# Altium schematic symbol library Connectors.SchLib: 13 symbols
Pins are listed as number, name and electrical type; pins without a type are passive.

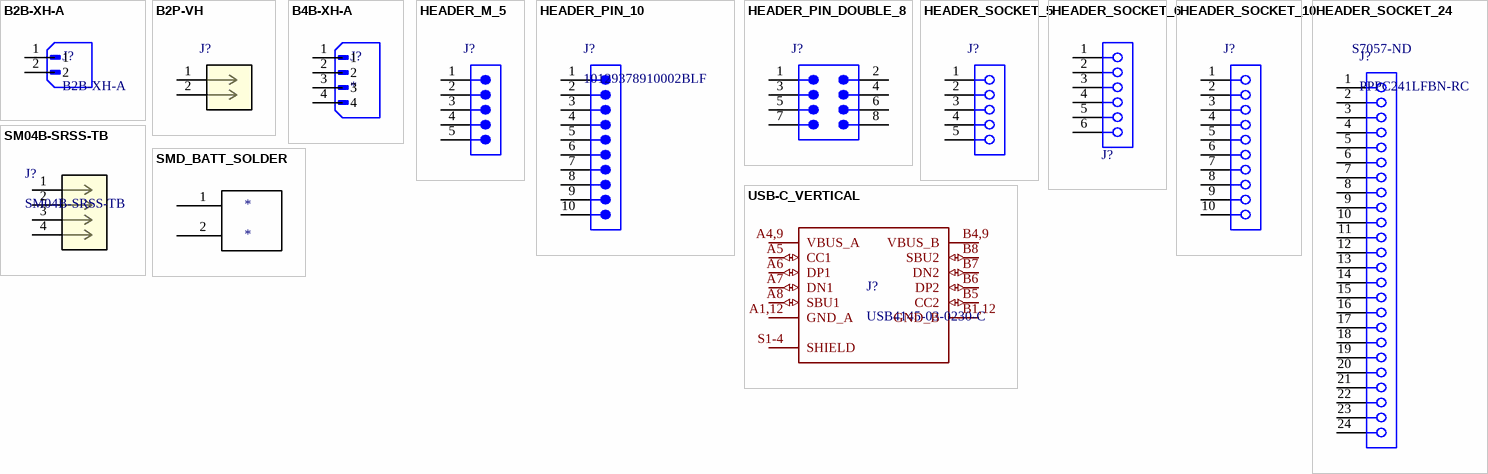
[diagram p0: symbols B2B-XH-A to USB-C_VERTICAL]

## B2B-XH-A
designator J?
MF: {'manufacturer': u'JST Sales America Inc.'}; Package: None; Price: None; Value: *; MP: B2B-XH-A; Availability: Unavailable; Supplier Part Number 1: 455-B2B-XH-A-ND
footprint JST_B2B-XH-A
pins: 1, 2

## B2P-VH
designator J?  (value not drawn)
VH Non-RoHS Compliant 2003 Vertical Connector Header -25C~85C 10A 250V 0.303 7.70mm; Manufacturer: JST; Number of Positions: 2; Gender: Male; Pitch: 0.156inch; Supplier 1: Digikey; Manufacturer Part Number: B2P-VH; RoHS: Yes; Category: Headers and Wire Housings; Stock 1: 15152; Pricing 1: 1=0.13, 10=0.112, 100=0.0949, 500=0.08472, 1000=0.08068, 5000=0.07201, 10000=0.06857 (USD); Mount: Through Hole; Contact Plating: Tin,Lead; Housing Color: Natural; Contact Material: Brass; Housing Material: Nylon; Color: Natural; Fastening Type: Friction; Packaging: Bulk; Number of Rows: 1; Termination: Solder; Orientation: Vertical; Number of Contacts: 2; Series: VH; Contact Type: Male Pin; Package Quantity: 1000; Contact Mating Length: 0.303inch; Lead Free: Contains Lead; ComponentLink1URL: https://datasheet.ciiva.com/6892/vhseries-6892089.pdf?src-supplier=Digikey; ComponentLink1Description: https://datasheet.ciiva.com/6892/vhseries-6892089.pdf?src-supplier=Digikey; Supplier Part Number 1: 455-1639-ND
footprint CONN_B2P-VH_JST
pins: 1, 2

## B4B-XH-A
designator J?
Connector Header Through Hole 4 position 0.098 (2.50mm); MF: JST Sales; MP: B4B-XH-A; SnapEDA_Link: https://www.snapeda.com/parts/B4B-XH-A/JST/view-part/?ref=snap; Package: None; Value: *; Check_prices: https://www.snapeda.com/parts/B4B-XH-A/JST/view-part/?ref=eda; Supplier Part Number 1: 455-B4B-XH-A-ND
footprint JST_B4B-XH-A
pins: 1, 2, 3, 4

## HEADER_M_5
designator J?, comment 61300511121  (value not drawn)
THT Vertical Pin Header WR-PHD, Pitch 2.54 mm, Single Row, 5 pins; Manufacturer: Wurth Electronics; Number of Positions: 5; Gender: Male; Contact Resistance: 20mR; Current Rating: 3A; Voltage Rating: 250V; Pitch: 0.1inch; Supplier 1: Digikey; Manufacturer Part Number: 61300511121; RoHS: Yes; Category: Headers and Wire Housings; Stock 1: 61079; Pricing 1: 1=0.24, 10=0.2, 25=0.1664, 50=0.1396, 100=0.1269, 1000=0.11625 (USD); Mount: Through Hole; Contact Plating: Gold; Contact Material: Copper; Color: Black; Min Operating Temperature: -40°C; Max Operating Temperature: 105°C; Number of Rows: 1; Packaging: Bulk; Termination: Solder; Number of Contacts: 5; Series: WR-PHD; Contact Type: Male Pin; Orientation: Vertical; Operating Supply Voltage: 250V; Height: 8.89mm; Contact Mating Length: 0.236inch; Lead Free: Lead Free; RoHS Compliant: Yes; Reach SVHC Compliant: Unknown; ComponentLink1URL: https://katalog.we-online.de/em/datasheet/6130xx11121.pdf?src-supplier=Digikey; ComponentLink1Description: https://katalog.we-online.de/em/datasheet/6130xx11121.pdf?src-supplier=Digikey; ComponentLink2URL: http://www.farnell.com/cad/1737268.pdf?src-supplier=Element14; ComponentLink2Description: http://www.farnell.com/cad/1737268.pdf?src-supplier=Element14; ComponentLink3URL: https://datasheet.octopart.com/61300511121-W%C3%BCrth-Elektronik-datasheet-21154836.pdf?src-supplier=Element14; ComponentLink3Description: https://datasheet.octopart.com/61300511121-W%C3%BCrth-Elektronik-datasheet-21154836.pdf?src-supplier=Element14; Supplier Part Number 1: 732-5318-ND
footprint HEADER_M_5 (Pin Header, pitch 2.54 mm, THT, Vertical, single row, 5p)
pins: 1, 2, 3, 4, 5

## HEADER_PIN_10
designator J?, comment 10129378910002BLF
Header Sr Vt Th 1X10-10129378-910002BLF; Manufacturer: Amphenol ICC / FCI; Supplier 1: Digikey; Manufacturer Part Number: 10129378910002BLF; RoHS: No; Stock 1: 16991; Pricing 1: 1=0.19, 10=0.164, 100=0.1394, 500=0.12438, 2400=0.11133, 7200=0.10302, 12000=0.09937 (USD); ComponentLink1URL: https://datasheet.octopart.com/10129378-910002BLF-Amphenol-ICC-datasheet-100454231.pdf?src-supplier=Newark; ComponentLink1Description: https://datasheet.octopart.com/10129378-910002BLF-Amphenol-ICC-datasheet-100454231.pdf?src-supplier=Newark; Supplier Part Number 1: 10129378-910002BLF-ND
footprint HEADER_PIN_10 (Pin Header, pitch 2.54 mm, THT, Vertical, single row, 10p)
pins: 1, 2, 3, 4, 5, 6, 7, 8, 9, 10

## HEADER_PIN_DOUBLE_8
designator J?, comment TSW-104-07-F-D  (value not drawn)
Connector, Header, 8Pos, 2Row, 2.54Mm Rohs Compliant: Yes; Manufacturer: Samtec; Max Current Rating: 7.6A; Number of Positions: 8; Max Voltage Rating (AC): 550V; Gender: Male; Row Spacing: 0.1inch; Supplier 1: Digikey; Manufacturer Part Number: TSW-104-07-F-D; RoHS: Yes; Category: Connectors; Stock 1: 10136; Pricing 1: 1=0.43, 50=0.37, 100=0.31, 500=0.26, 1000=0.22, 2000=0.19, 5000=0.17, 10000=0.15 (USD); Mount: Through Hole; Color: Black; Contact Plating: Gold; Contact Material: Bronze; Housing Color: Black; Housing Material: Polyester; Min Operating Temperature: -55°C; Max Operating Temperature: 125°C; Package Quantity: 1; Number of Rows: 2; Packaging: Rail/Tube; Termination: Solder; Number of Contacts: 8; Orientation: Straight; Series: TSW; Contact Type: Male Pin; Length: 10.16mm; Pitch: 2.54mm; Contact Mating Length: 0.23inch; Depth: 5.08mm; Radiation Hardening: No; Reach SVHC Compliant: No; RoHS Compliant: Yes; ComponentLink1URL: https://datasheet.ciiva.com/739/tsw-xxx-xx-xxx-x-xx-xxx-mkt-739906.pdf?src-supplier=Digikey; ComponentLink1Description: https://datasheet.ciiva.com/739/tsw-xxx-xx-xxx-x-xx-xxx-mkt-739906.pdf?src-supplier=Digikey; Supplier Part Number 1: SAM8996-ND
footprint HEADER_PIN_DOUBLE_8 (Pin Header, pitch 2.54 mm, THT, Vertical, dual row, 8p)
pins: 1, 2, 3, 4, 5, 6, 7, 8

## HEADER_SOCKET_5
designator J?, comment PPTC051LFBN-RC  (value not drawn)
Female, 5C, Straight, .100"CC; 3.20mm Tail, No Mt. 100u" Tin; PBT, Phos Bronze, 105 C; Manufacturer: Sullins; Number of Positions: 5; Connector Type: Header; Voltage Rating: 250V; Pitch: 2.54mm; Supplier 1: Digikey; Manufacturer Part Number: PPTC051LFBN-RC; RoHS: Yes; Category: Connectors; Stock 1: 38668; Pricing 1: 1=0.38, 10=0.327, 100=0.2775, 500=0.24768, 1000=0.23585, 5000=0.21052, 10000=0.20048 (USD); Mount: Through Hole; Contact Material: Bronze; Housing Material: Plastic; Contact Finish - Mating: TIN; Insulation Color: Black; Insulation Material: Polyester; Contact Shape: Square; Min Operating Temperature: -40°C; Max Operating Temperature: 105°C; Series: -; Termination: Solder; Number of Rows: 1; Packaging: Tray; Contact Type: Female Socket; Fastening Type: Pull; Length: 13.2mm; Width: 2.5mm; Height: 8.5mm; Lead Free: Lead Free; RoHS Compliant: Yes; Flammability Rating: UL94 V-0; ComponentLink1URL: https://media.digikey.com/pdf/Data%20Sheets/Sullins%20PDFs/Female_Headers.100_DS.pdf?src-supplier=Digikey; ComponentLink1Description: https://media.digikey.com/pdf/Data%20Sheets/Sullins%20PDFs/Female_Headers.100_DS.pdf?src-supplier=Digikey; ComponentLink2URL: http://www.sullinscorp.com/catalogs/78_Page80-81_HEADER_.100_2.54mm_FEMALE.pdf?src-supplier=Future+Electronics; ComponentLink2Description: http://www.sullinscorp.com/catalogs/78_Page80-81_HEADER_.100_2.54mm_FEMALE.pdf?src-supplier=Future+Electronics; ComponentLink3URL: https://datasheet.octopart.com/PPTC051LFBN-RC-Sullins-datasheet-41308905.pdf?src-supplier=Future+Electronics; ComponentLink3Description: https://datasheet.octopart.com/PPTC051LFBN-RC-Sullins-datasheet-41308905.pdf?src-supplier=Future+Electronics; Supplier Part Number 1: S6103-ND
footprint HEADER_SOCKET_5 (Socket Header, Pitch 2.54 mm, THT, Vertical, single row, 5p)
pins: 1, 2, 3, 4, 5

## HEADER_SOCKET_6
designator J?, comment 61300611821  (value not drawn)
WR-PHD Socket Header, THT, Vertical, pitch 2.54mm, 1 Row, 6P; Manufacturer: Wurth Elektronik; Contact Resistance: 20mOhm; Rated Current: 3A; Working Voltage: 250V; Withstanding Voltage: 500V; Manufacturer Part Number: 61300611821; Category: Board-to-Board Connectors; Match Code: WR-PHD; ComponentLink1Description: Website Link; ComponentLink1URL: https://www.we-online.com/redexpert/article/61300611821?ad; ComponentLink2Description: Datasheet Link; ComponentLink2URL: https://www.we-online.com/redexpert/spec/61300611821?ad; Mount: Through Hole; Operating Temperature Max: 125°C; Operating Temperature Min: -40°C; Packaging: Tray; Gender: Socket Header; Number of Pins: 6; Number of Rows: 1; Orientation: Vertical; Pitch: 2.54mm; Supplier Part Number 1: 732-61300611821-ND
footprint HEADER_SOCKET_6 (Socket Header, Pitch 2.54 mm, THT, Vertical, single row, 6p)
pins: 1, 2, 3, 4, 5, 6

## HEADER_SOCKET_10
designator J?, comment PPTC101LFBN-RC  (value not drawn)
10 Position Single Row 2.54 mm Pitch Vertical Through Hole Socket Header; Manufacturer: Sullins; Number of Positions: 10; Voltage Rating: 250V; Supplier 1: Digikey; Manufacturer Part Number: PPTC101LFBN-RC; RoHS: Yes; Category: Connectors; Stock 1: 12734; Pricing 1: 1=0.56, 10=0.479, 320=0.37469, 640=0.35678, 1280=0.33974, 5120=0.30808, 10240=0.29429 (USD); Mount: Through Hole; Contact Material: Bronze; Housing Material: Plastic; Contact Finish - Mating: TIN; Insulation Color: Black; Insulation Material: Polyester; Contact Shape: Square; Min Operating Temperature: -40°C; Max Operating Temperature: 105°C; Series: -; Number of Rows: 1; Packaging: Tray; Termination: Solder; Connector Type: Header; Contact Type: Female Socket; Fastening Type: Pull; Length: 25.9mm; Width: 2.5mm; Height: 8.5mm; Lead Free: Lead Free; RoHS Compliant: Yes; Flammability Rating: UL94 V-0; ComponentLink1URL: https://media.digikey.com/pdf/Data%20Sheets/Sullins%20PDFs/Female_Headers.100_DS.pdf?src-supplier=Digikey; ComponentLink1Description: https://media.digikey.com/pdf/Data%20Sheets/Sullins%20PDFs/Female_Headers.100_DS.pdf?src-supplier=Digikey; Supplier Part Number 1: S7008-ND
footprint HEADER_SOCKET_10 (Socket Header, Pitch 2.54 mm, THT, Vertical, single row, 10p)
pins: 1, 2, 3, 4, 5, 6, 7, 8, 9, 10

## HEADER_SOCKET_24
designator J?, comment PPPC241LFBN-RC  Supplier Part Number 1: S7057-ND
Conn Hdr 24POS 0.1 Gold Pcb; Manufacturer: Sullins; Number of Positions: 24; Connector Type: Header; Voltage Rating: 250V; Supplier 1: Digikey; Manufacturer Part Number: PPPC241LFBN-RC; RoHS: Yes; Category: Connectors; Stock 1: 2439; Pricing 1: 1=1.35, 10=1.144, 100=0.972, 500=0.86756, 1000=0.82614, 5000=0.7631 (USD); Mount: Through Hole; Contact Material: Bronze; Housing Material: Plastic; Contact Finish - Mating: GOLD; Insulation Color: Black; Insulation Material: Polyester; Contact Shape: Square; Min Operating Temperature: -40°C; Max Operating Temperature: 105°C; Series: -; Number of Rows: 1; Packaging: Tray; Termination: Solder; Contact Type: Female Socket; Fastening Type: Pull; Length: 61.5mm; Width: 2.5mm; Height: 8.5mm; Lead Free: Lead Free; RoHS Compliant: Yes; Flammability Rating: UL94 V-0; ComponentLink1URL: https://media.digikey.com/pdf/Data%20Sheets/Sullins%20PDFs/Female_Headers.100_DS.pdf?src-supplier=Digikey; ComponentLink1Description: https://media.digikey.com/pdf/Data%20Sheets/Sullins%20PDFs/Female_Headers.100_DS.pdf?src-supplier=Digikey; ComponentLink2URL: https://datasheet.octopart.com/PPPC241LFBN-RC-Sullins-datasheet-145015166.pdf?src-supplier=Future+Electronics; ComponentLink2Description: https://datasheet.octopart.com/PPPC241LFBN-RC-Sullins-datasheet-145015166.pdf?src-supplier=Future+Electronics
footprint HEADER_SOCKET_24 (Socket Header, Pitch 2.54 mm, THT, Vertical, single row, 24p)
pins: 1, 2, 3, 4, 5, 6, 7, 8, 9, 10, 11, 12, 13, 14, 15, 16, 17, 18, 19, 20, 21, 22, 23, 24

## SM04B-SRSS-TB
designator J?
No Description Available; Manufacturer_Name: JST; Copyright: Copyright (C) 2025 Ultra Librarian. All rights reserved.; Manufacturer_Part_Number: SM04B-SRSS-TB; RefDes: RefDes; Type: Type; Supplier Part Number 1: 455-SM04B-SRSS-TBTR-ND
footprint CONN_SM04B-SRSS-TB_JST
pins: 1, 2, 3, 4

## SMD_BATT_SOLDER
designator *
footprint SMD_BATT_SOLDER
pins: 1, 2

## USB-C_VERTICAL
designator J?, comment USB4145-03-0230-C
USB Connector, 2 Contact(s), Female, Straight, Surface Mount Terminal, Locking, Receptacle; Manufacturer: Global Connector Technology; Current Rating: 6.25A; Voltage Rating: 48V; Number of Contacts: 16NUMBER; USB Standard: 6108USBStandard; Supplier 1: Digikey; Manufacturer Part Number: USB4145-03-0230-C; RoHS: No; Category: USB Connectors; Stock 1: 10948; Pricing 1: 1=1.02, 10=0.866, 25=0.812, 50=0.7732, 100=0.7362, 250=0.69004 (USD); Number of Pins: 16NUMBER; Contact Material: 153,157ConductorMaterial; Min Operating Temperature: -25°C; Max Operating Temperature: 85°C; Orientation: 5495OrientationType; Height: 7.66mm; ComponentLink1URL: https://datasheet.octopart.com/USB4145-03-0230-C-Global-Connector-Technology-datasheet-168181616.pdf?src-supplier=Future+Electronics; ComponentLink1Description: https://datasheet.octopart.com/USB4145-03-0230-C-Global-Connector-Technology-datasheet-168181616.pdf?src-supplier=Future+Electronics; ComponentLink2URL: https://datasheet.octopart.com/USB4145-03-0230-C-GCT-datasheet-188936001.pdf?src-supplier=TME; ComponentLink2Description: https://datasheet.octopart.com/USB4145-03-0230-C-GCT-datasheet-188936001.pdf?src-supplier=TME; Supplier Part Number 1: 2073-USB4145-03-0230-CCT-ND; LCSC: C5815189
footprint GCT_USB4145-03-0230-C_REVA2
pins: A1,12 GND_A (power), A4,9 VBUS_A (power), A5 CC1 (io), A6 DP1 (io), A7 DN1 (io), A8 SBU1 (io), B1,12 GND_B (power), B4,9 VBUS_B (power), B5 CC2 (io), B6 DP2 (io), B7 DN2 (io), B8 SBU2 (io), S1-4 SHIELD